# EAGLE library part GY-87 (library Board-Ibnu)
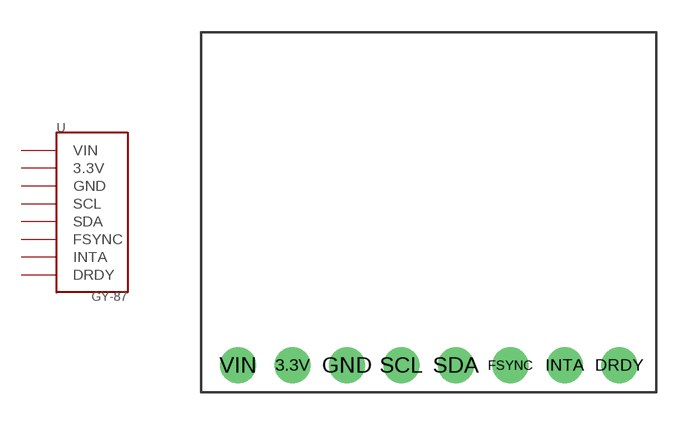
[diagram p5: symbol with the pads of GY-87; footprint GY-87]

Designator prefix U

## GY-87  [GY-87]
3.3V  3.3V
DRDY  DRDY
FSYNC  FSYNC
GND  GND
INTA  INTA
SCL  SCL
SDA  SDA
VIN  VIN

## Footprint GY-87 (pad centres in mm)
drill 0.9 pad 1.676: 3.3V 2.54,0; DRDY 17.78,0; FSYNC 12.7,0; GND 5.08,0; INTA 15.24,0; SCL 7.62,0; SDA 10.16,0; VIN 0,0